# Altium footprint library GPS_Traking_V1_1.PcbLib: 54 footprints (part 1 of 4)
Each footprint in its own frame and in the unit in brackets; x right, y up, seen from the top. Pads: shape width x height; smd on the part's side, far side on the other; paste and mask are expansions set on the pad; w line width, h text height; cw(c..) or ccw(c..) is an arc to the next point about the centre after c.
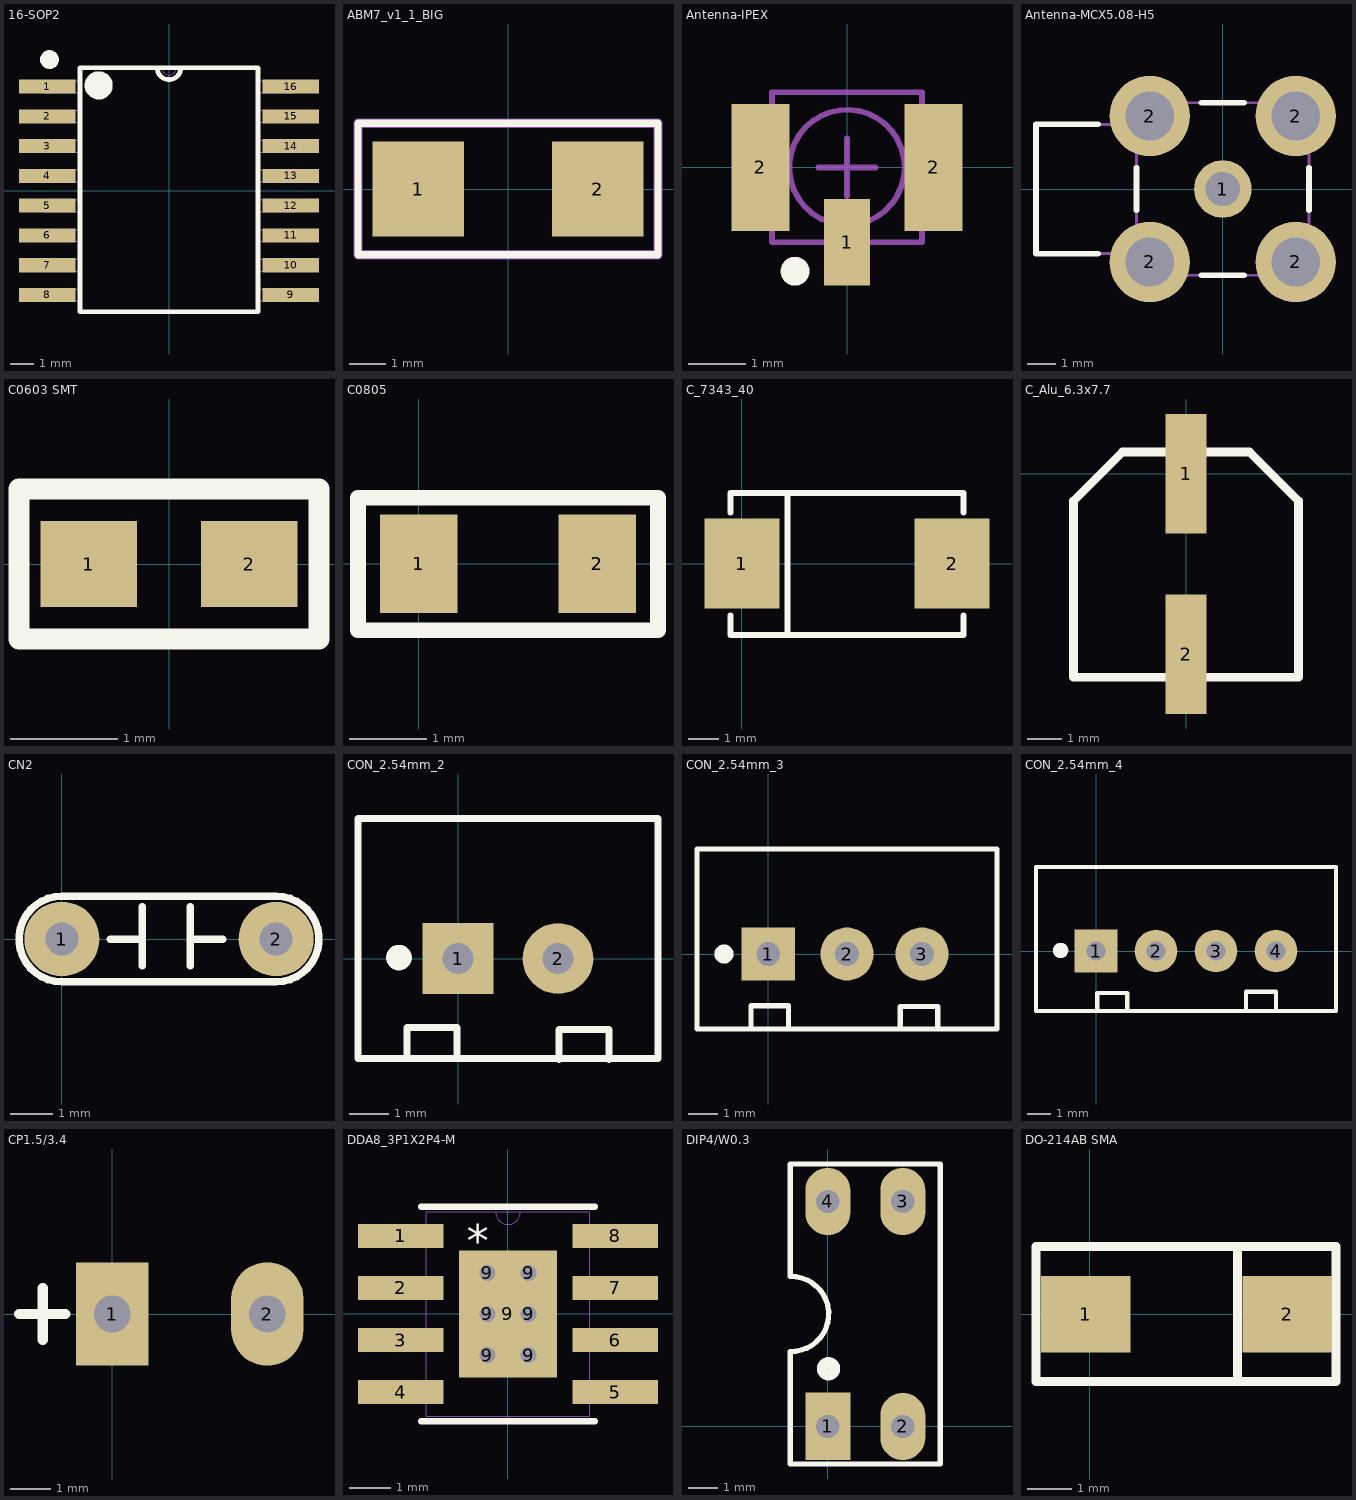
[diagram p0: the footprints below, top view; thin cyan lines are the x and y axes]

## 16-SOP2 [mm]
pads (16):
  rect 2.4x0.6 smd: 1(-5.2,4.445) 2(-5.2,3.175) 3(-5.2,1.905) 4(-5.2,0.635) 5(-5.2,-0.635) 6(-5.2,-1.905) 7(-5.2,-3.175) 8(-5.2,-4.445) 9(5.2,-4.445) 10(5.2,-3.175) 11(5.2,-1.905) 12(5.2,-0.635) 13(5.2,0.635) 14(5.2,1.905) 15(5.2,3.175) 16(5.2,4.445)
Top Overlay:
  circle w0.6: c-3,4.5 r0.3
  circle w0.4: c-5.1,5.6 r0.2
  lines w0.2: -0.5,5.245 ccw(c0,5.245) 0.5,5.245 ; -3.797,-5.155 3.797,-5.155 3.797,5.245 -3.797,5.245 -3.797,-5.155
Mechanical 1:
  lines w0.025: -0.305,5.245 ccw(c0,5.245) 0.305,5.245 ; -5.321,-4.699 -3.797,-4.699 -3.797,-4.191 -5.321,-4.191 -5.321,-4.699 ; -5.321,-3.429 -3.797,-3.429 -3.797,-2.921 -5.321,-2.921 -5.321,-3.429 ; -5.321,-2.159 -3.797,-2.159 -3.797,-1.651 -5.321,-1.651 -5.321,-2.159 ; -5.321,-0.889 -3.797,-0.889 -3.797,-0.381 -5.321,-0.381 -5.321,-0.889 ; -5.321,0.381 -3.797,0.381 -3.797,0.889 -5.321,0.889 -5.321,0.381 ; -5.321,1.651 -3.797,1.651 -3.797,2.159 -5.321,2.159 -5.321,1.651 ; -5.321,2.921 -3.797,2.921 -3.797,3.429 -5.321,3.429 -5.321,2.921 ; -5.321,4.191 -3.797,4.191 -3.797,4.699 -5.321,4.699 -5.321,4.191 ; -3.797,-5.155 -3.797,5.245 3.797,5.245 3.797,-5.155 -3.797,-5.155 ; 3.797,-4.699 5.321,-4.699 5.321,-4.191 3.797,-4.191 3.797,-4.699 ; 3.797,-3.429 5.321,-3.429 5.321,-2.921 3.797,-2.921 3.797,-3.429 ; 3.797,-2.159 5.321,-2.159 5.321,-1.651 3.797,-1.651 3.797,-2.159 ; 3.797,-0.889 5.321,-0.889 5.321,-0.381 3.797,-0.381 3.797,-0.889 ; 3.797,0.381 5.321,0.381 5.321,0.889 3.797,0.889 3.797,0.381 ; 3.797,1.651 5.321,1.651 5.321,2.159 3.797,2.159 3.797,1.651 ; 3.797,2.921 5.321,2.921 5.321,3.429 3.797,3.429 3.797,2.921 ; 3.797,4.191 5.321,4.191 5.321,4.699 3.797,4.699 3.797,4.191
3D body: height 3.5, standoff 0, extent -5.171,-5.055 5.129,5.145

## ABM7_v1_1_BIG [mm]
pads (2):
  rect 2.5x2.6 smd: 1(-2.45,0) 2(2.45,0)
Top Overlay:
  lines w0.2: -4.1,-1.8 -4.1,1.8 4.1,1.8 4.1,-1.8 -4.1,-1.8
Mechanical 16:
  lines w0.254: -4.1,-1.8 -4.1,1.8 4.1,1.8 4.1,-1.8 -4.1,-1.8
3D body: height 1.44, standoff 0.04, extent -3.1,-1.85 3.1,1.85
3D body: height 1.45, standoff 1.4, extent -2,-1.3 2,1.5

## Antenna-IPEX [mm]
pads (3):
  rect 0.8x1.5 smd: 1(0,-1.3)
  rect 1x2.2 smd: 2(-1.5,0) 2(1.5,0)
Top Overlay:
  circle w0.25: c-0.9,-1.8 r0.125
Mechanical 13:
  circle w0.1: c0,0 r1
  lines w0.1: -1.3,-1.3 -1.3,1.3 1.3,1.3 1.3,-1.3 -1.3,-1.3
Mechanical 15:
  lines w0.1: -0.5,0 0.5,0 ; 0,-0.5 0,0.5
3D body: height 1.25, standoff -0.01, extent -1.5,-1.55 1.5,1.55

## Antenna-MCX5.08-H5 [mm]
pads (5):
  round 2 hole 1.2: 1(0,0)
  round 2.8 hole 1.7: 2(-2.54,-2.54) 2(-2.54,2.54) 2(2.54,-2.54) 2(2.54,2.54)
Top Overlay:
  lines w0.2: -4.34,-2.25 -6.5,-2.25 -6.5,2.25 -4.34,2.25 ; -3,-0.74 -3,0.74 ; -0.74,-3 0.74,-3 ; -0.74,3 0.74,3 ; 3,-0.74 3,0.74
Mechanical 13:
  lines w0.1: -3,-2.25 -6.5,-2.25 -6.5,2.25 -3,2.25 ; -3,-3 -3,3 3,3 3,-3 -3,-3
3D body: height 9.86, standoff -4.24, extent -11.6,-3.5 3.5,3.5

## C0603 SMT [mm]
pads (2):
  rect 0.9x0.8 smd: 1(-0.75,0) 2(0.75,0)
Top Overlay:
  lines w0.2: -1.4,-0.7 -1.4,0.7 1.4,0.7 1.4,-0.7 -1.4,-0.7
Mechanical 16:
  lines w0.15: -1.4,-0.7 1.4,-0.7 1.4,0.7 -1.4,0.7 -1.4,-0.7
3D body: height 0.79, standoff 0, extent -0.8,-0.425 0.8,0.435
3D body: height 0.95, standoff 0.15, extent -0.8,-0.425 0.8,0.435

## C0805 [mm]
pads (2):
  rect 1x1.27 smd: 1(0,0) 2(2.3,0)
Top Overlay:
  lines w0.2: -0.78,-0.853 -0.78,0.849 3.08,0.849 3.08,-0.853 -0.78,-0.853
3D body: height 0.6, standoff 0, extent 0.143,-0.625 2.143,0.625

## C_7343_40 [mm]
pads (2):
  rect 2.5x3 smd: 1(0,0) 2(7,0)
Top Overlay:
  lines w0.2: -0.381,-1.734 -0.381,-2.388 7.391,-2.388 7.391,-1.734 ; -0.381,1.709 -0.381,2.362 7.391,2.362 7.391,1.709 ; 1.524,-2.286 1.524,2.286
3D body: height 4, standoff 0, extent -0.3,-2.3 7.3,2.3

## C_Alu_6.3x7.7 [mm]
pads (2):
  rect 1.2x3.5 smd: 1(0,0) 2(0,-5.3)
Top Overlay:
  lines w0.254: -3.302,-5.969 -3.302,-0.802 -1.865,0.635 1.865,0.635 3.302,-0.802 3.302,-5.969 -3.302,-5.969
3D body: height 3.91, standoff 0, extent -3.302,-6.167 3.298,0.833

## CN2 [mil]
pads (2):
  round 70 hole 31: 1(0,0) 2(200,0)
Top Overlay:
  lines w7: 45,0 75,0 ; 75,-25 75,30 ; 120,-25 120,30 ; 120,0 150,0 ; 0,-40 cw(c0,0) 0,40 200,40 cw(c200,0) 200,-40 0,-40
3D body: height 407.48, standoff -87.28, extent -54.48,-44.22 260.48,54.6

## CON_2.54mm_2 [mm]
pads (2):
  rect 1.8x1.8 hole 0.8: 1(0,0)
  round 1.8 hole 0.8: 2(2.54,0)
Top Overlay:
  circle w0.4: c-1.498,0.024 r0.125
  lines w0.178: -1.295,-2.515 -1.295,-1.753 -0.025,-1.753 -0.025,-2.515 ; 2.565,-2.565 2.565,-1.803 3.835,-1.803 3.835,-2.565 ; -2.54,-2.54 5.08,-2.54 5.08,3.556 -2.54,3.556 -2.54,-2.54
3D body: height 7, standoff -3.5, extent -2.45,-2.2 5.05,3.55

## CON_2.54mm_3 [mm]
pads (3):
  rect 1.8x1.8 hole 0.8: 1(0,0)
  round 1.8 hole 0.8: 2(2.667,0) 3(5.207,0)
Top Overlay:
  circle w0.4: c-1.5,0 r0.125
  lines w0.178: -0.584,-2.515 -0.584,-1.753 0.686,-1.753 0.686,-2.515 ; 4.47,-2.54 4.47,-1.778 5.74,-1.778 5.74,-2.54 ; -2.413,-2.54 -2.413,3.556 7.747,3.556 7.747,0 7.747,-2.54 -2.413,-2.54
3D body: height 7, standoff -3.5, extent -2.4,-2.275 7.6,3.475

## CON_2.54mm_4 [mm]
pads (4):
  rect 1.8x1.8 hole 0.8: 1(0,0)
  round 1.8 hole 0.8: 2(2.54,0) 3(5.08,0) 4(7.62,0)
Top Overlay:
  circle w0.4: c-1.498,0.024 r0.125
  lines w0.178: 0.051,-2.54 0.051,-1.778 1.321,-1.778 1.321,-2.54 ; 6.35,-2.489 6.35,-1.727 7.62,-1.727 7.62,-2.489 ; -2.54,-2.54 -2.54,3.556 10.16,3.556 10.16,0 10.16,-2.54 -2.54,-2.54
3D body: height 7, standoff -3.5, extent -2.4,-2.25 10,3.5

## CP1.5/3.4 [mm]
pads (2):
  rect 1.778x2.54 hole 0.9: 1(0,0)
  oval 1.778x2.54 hole 0.9: 2(3.81,0)
Top Overlay:
  lines w0.254: -2.286,0 -1.143,0 ; -1.702,-0.635 -1.702,0.635

## DDA8_3P1X2P4-M [mm]
pads (15):
  rect 2.083x0.584 smd: 1(-2.616,1.905) 2(-2.616,0.635) 3(-2.616,-0.635) 4(-2.616,-1.905) 5(2.616,-1.905) 6(2.616,-0.635) 7(2.616,0.635) 8(2.616,1.905)
  round 0.8 hole 0.4: 9(-0.5,-1) 9(-0.5,0) 9(-0.5,1) 9(0.5,-1) 9(0.5,0) 9(0.5,1)
  rect 2.4x3.1 smd: 9(0,0)
Top Overlay:
  lines w0.152: -2.121,-2.616 2.121,-2.616 ; -2.121,2.616 2.121,2.616
  text "*" at -1,1.4 h0.79
Mechanical 1:
  lines w0.025: -0.305,2.489 ccw(c0,2.489) 0.305,2.489 ; -3.099,-2.146 -1.994,-2.146 -1.994,-1.664 -3.099,-1.664 -3.099,-2.146 ; -3.099,-0.876 -1.994,-0.876 -1.994,-0.394 -3.099,-0.394 -3.099,-0.876 ; -3.099,0.394 -1.994,0.394 -1.994,0.876 -3.099,0.876 -3.099,0.394 ; -3.099,1.664 -1.994,1.664 -1.994,2.146 -3.099,2.146 -3.099,1.664 ; -1.994,-2.489 -1.994,2.489 1.994,2.489 1.994,-2.489 -1.994,-2.489 ; 1.994,-2.146 3.099,-2.146 3.099,-1.664 1.994,-1.664 1.994,-2.146 ; 1.994,-0.876 3.099,-0.876 3.099,-0.394 1.994,-0.394 1.994,-0.876 ; 1.994,0.394 3.099,0.394 3.099,0.876 1.994,0.876 1.994,0.394 ; 1.994,1.664 3.099,1.664 3.099,2.146 1.994,2.146 1.994,1.664
  text "*" at -2.751,2.7 h0.79
3D body: height 1.68, standoff -0.05, extent -3.099,-2.489 3.099,2.489

## DIP4/W0.3 [mil]
pads (4):
  rect 60x90 hole 31: 1(0,0)
  oval 60x90 hole 31: 2(100,0) 3(100,300) 4(0,300)
Top Overlay:
  circle w15: c1,77 r8
  lines w7: -50.38,100.05 ccw(c-48.69,150.02) -50,200 ; -50,100 -50,-50 150,-50 150,350 -50,350 -50,201
3D body: height 169.69, standoff -129.13, extent -59.06,-10 159.06,304.96

## DO-214AB SMA [mm]
pads (2):
  rect 2x1.7 smd: 1(-0.092,0) 2(4.408,0)
Top Overlay:
  lines w0.2: 3.302,-1.48 3.302,1.48 ; -1.2,-1.5 -1.2,1.51 5.5,1.51 5.5,-1.5 -1.2,-1.5
3D body: height 2.28, standoff -0.03, extent -0.37,-1.35 4.63,1.35